# EAGLE library part PIC16F913/916 (library microchip2)
28-Pin Flash-Based, 8-Bit CMOS Microcontrollers with nanoWatt Technology
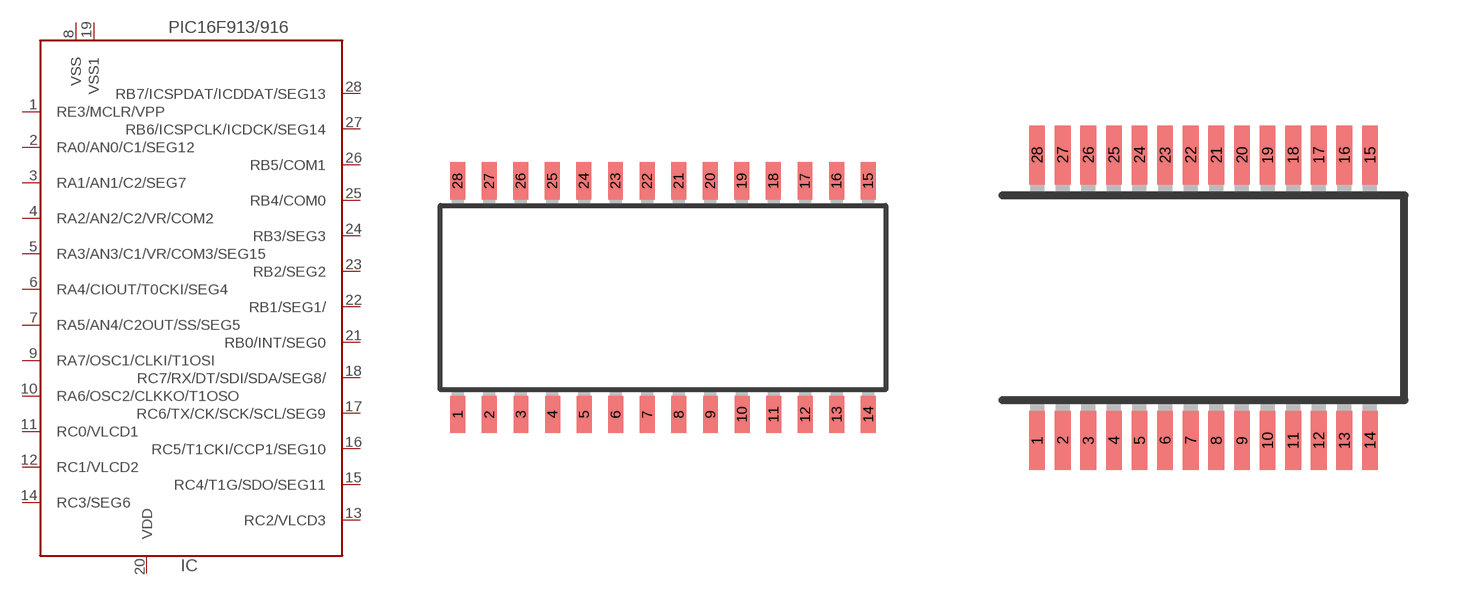
[diagram p187: symbol with the pads of SOIC28W; footprints SOIC28W, SSOP28]

Designator prefix IC

## PIC16F913/916-I/SO  [SOIC28W]
1  RE3/MCLR/VPP  in
2  RA0/AN0/C1/SEG12
3  RA1/AN1/C2/SEG7
4  RA2/AN2/C2/VR/COM2
5  RA3/AN3/C1/VR/COM3/SEG15
6  RA4/CIOUT/T0CKI/SEG4
7  RA5/AN4/C2OUT/SS/SEG5
8  VSS  pwr
9  RA7/OSC1/CLKI/T1OSI
10  RA6/OSC2/CLKKO/T1OSO
11  RC0/VLCD1
12  RC1/VLCD2
13  RC2/VLCD3  pwr
14  RC3/SEG6
15  RC4/T1G/SDO/SEG11  pwr
16  RC5/T1CKI/CCP1/SEG10  pwr
17  RC6/TX/CK/SCK/SCL/SEG9  pwr
18  RC7/RX/DT/SDI/SDA/SEG8/  pwr
19  VSS1  pwr
20  VDD  pwr
21  RB0/INT/SEG0
22  RB1/SEG1/
23  RB2/SEG2
24  RB3/SEG3
25  RB4/COM0
26  RB5/COM1
27  RB6/ICSPCLK/ICDCK/SEG14
28  RB7/ICSPDAT/ICDDAT/SEG13

## PIC16F913/916-I/SS  [SSOP28]
Pads as for SOIC28W

## PIC16F913/916-E/ML  [QFN28-ML_6X6MM]
1  RA2/AN2/C2/VR/COM2
2  RA3/AN3/C1/VR/COM3/SEG15
3  RA4/CIOUT/T0CKI/SEG4
4  RA5/AN4/C2OUT/SS/SEG5
5  VSS  pwr
6  RA7/OSC1/CLKI/T1OSI
7  RA6/OSC2/CLKKO/T1OSO
8  RC0/VLCD1
9  RC1/VLCD2
10  RC2/VLCD3  pwr
11  RC3/SEG6
12  RC4/T1G/SDO/SEG11  pwr
13  RC5/T1CKI/CCP1/SEG10  pwr
14  RC6/TX/CK/SCK/SCL/SEG9  pwr
15  RC7/RX/DT/SDI/SDA/SEG8/  pwr
16  VSS1  pwr
17  VDD  pwr
18  RB0/INT/SEG0
19  RB1/SEG1/
20  RB2/SEG2
21  RB3/SEG3
22  RB4/COM0
23  RB5/COM1
24  RB6/ICSPCLK/ICDCK/SEG14
25  RB7/ICSPDAT/ICDDAT/SEG13
26  RE3/MCLR/VPP  in
27  RA0/AN0/C1/SEG12
28  RA1/AN1/C2/SEG7

## PIC16F913/916E/SP  [DIL28-SP]
Pads as for SOIC28W

## Footprint SOIC28W (pad centres in mm)
28-Lead Plastic Small Outline (SO) – Wide, 300 mil Body (SOIC)) Source: www.microchip.com
smd 0.6 x 1.5: 1 -8.25,-4.7; 2 -6.98,-4.7; 3 -5.71,-4.7; 4 -4.44,-4.7; 5 -3.17,-4.7; 6 -1.9,-4.7; 7 -0.63,-4.7; 8 0.64,-4.7; 9 1.91,-4.7; 10 3.18,-4.7; 11 4.45,-4.7; 12 5.72,-4.7; 13 6.99,-4.7; 14 8.26,-4.7; 15 8.25,4.7; 16 6.98,4.7; 17 5.71,4.7; 18 4.44,4.7; 19 3.17,4.7; 20 1.9,4.7; 21 0.63,4.7; 22 -0.64,4.7; 23 -1.91,4.7; 24 -3.18,4.7; 25 -4.45,4.7; 26 -5.72,4.7; 27 -6.99,4.7; 28 -8.26,4.7

## Footprint SSOP28 (pad centres in mm)
Shrink Small Outline Package package type SS
smd 0.4 x 1.5: 1 -4.225,-3.625; 2 -3.575,-3.625; 3 -2.925,-3.625; 4 -2.275,-3.625; 5 -1.625,-3.625; 6 -0.975,-3.625; 7 -0.325,-3.625; 8 0.325,-3.625; 9 0.975,-3.625; 10 1.625,-3.625; 11 2.275,-3.625; 12 2.925,-3.625; 13 3.575,-3.625; 14 4.225,-3.625; 15 4.225,3.625; 16 3.575,3.625; 17 2.925,3.625; 18 2.275,3.625; 19 1.625,3.625; 20 0.975,3.625; 21 0.325,3.625; 22 -0.325,3.625; 23 -0.975,3.625; 24 -1.625,3.625; 25 -2.275,3.625; 26 -2.925,3.625; 27 -3.575,3.625; 28 -4.225,3.625

## Footprint QFN28-ML_6X6MM (pad centres in mm)
QFN28-ML_6X6MM Source: http://www.microchip.com .. 39637a.pdf
smd 0.7 x 0.35: 1 -2.7,1.95; 2 -2.7,1.3; 3 -2.7,0.65; 4 -2.7,0; 5 -2.7,-0.65; 6 -2.7,-1.3; 7 -2.7,-1.95; 15 2.7,-1.95; 16 2.7,-1.3; 17 2.7,-0.65; 18 2.7,0; 19 2.7,0.65; 20 2.7,1.3; 21 2.7,1.95
smd 0.35 x 0.7: 8 -1.95,-2.7; 9 -1.3,-2.7; 10 -0.65,-2.7; 11 0,-2.7; 12 0.65,-2.7; 13 1.3,-2.7; 14 1.95,-2.7; 22 1.95,2.7; 23 1.3,2.7; 24 0.65,2.7; 25 0,2.7; 26 -0.65,2.7; 27 -1.3,2.7; 28 -1.95,2.7
smd 3.7 x 3.7: EXP 0,0

## Footprint DIL28-SP (pad centres in mm)
28-Lead Skinny Plastic Dual In-Line (SP) – 300 mil Body [SPDIP]l
drill 0.813 long: 1 -16.51,-3.81; 2 -13.97,-3.81; 3 -11.43,-3.81; 4 -8.89,-3.81; 5 -6.35,-3.81; 6 -3.81,-3.81; 7 -1.27,-3.81; 8 1.27,-3.81; 9 3.81,-3.81; 10 6.35,-3.81; 11 8.89,-3.81; 12 11.43,-3.81; 13 13.97,-3.81; 14 16.51,-3.81; 15 16.51,3.81; 16 13.97,3.81; 17 11.43,3.81; 18 8.89,3.81; 19 6.35,3.81; 20 3.81,3.81; 21 1.27,3.81; 22 -1.27,3.81; 23 -3.81,3.81; 24 -6.35,3.81; 25 -8.89,3.81; 26 -11.43,3.81; 27 -13.97,3.81; 28 -16.51,3.81